# Altium schematic symbol library lib.SchLib: 1 symbol
Pins are listed as number, name and electrical type; pins without a type are passive.

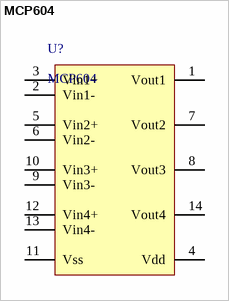
[diagram p0: symbol MCP604]

## MCP604
designator U?
pins: 1 Vout1, 2 Vin1-, 3 Vin1+, 4 Vdd, 5 Vin2+, 6 Vin2-, 7 Vout2, 8 Vout3, 9 Vin3-, 10 Vin3+, 11 Vss, 12 Vin4+, 13 Vin4-, 14 Vout4